# Altium footprint library MyPcbLib.PcbLib: 46 footprints (part 2 of 3)
Each footprint in its own frame and in the unit in brackets; x right, y up, seen from the top. Pads: shape width x height; smd on the part's side, far side on the other; paste and mask are expansions set on the pad; w line width, h text height; cw(c..) or ccw(c..) is an arc to the next point about the centre after c.
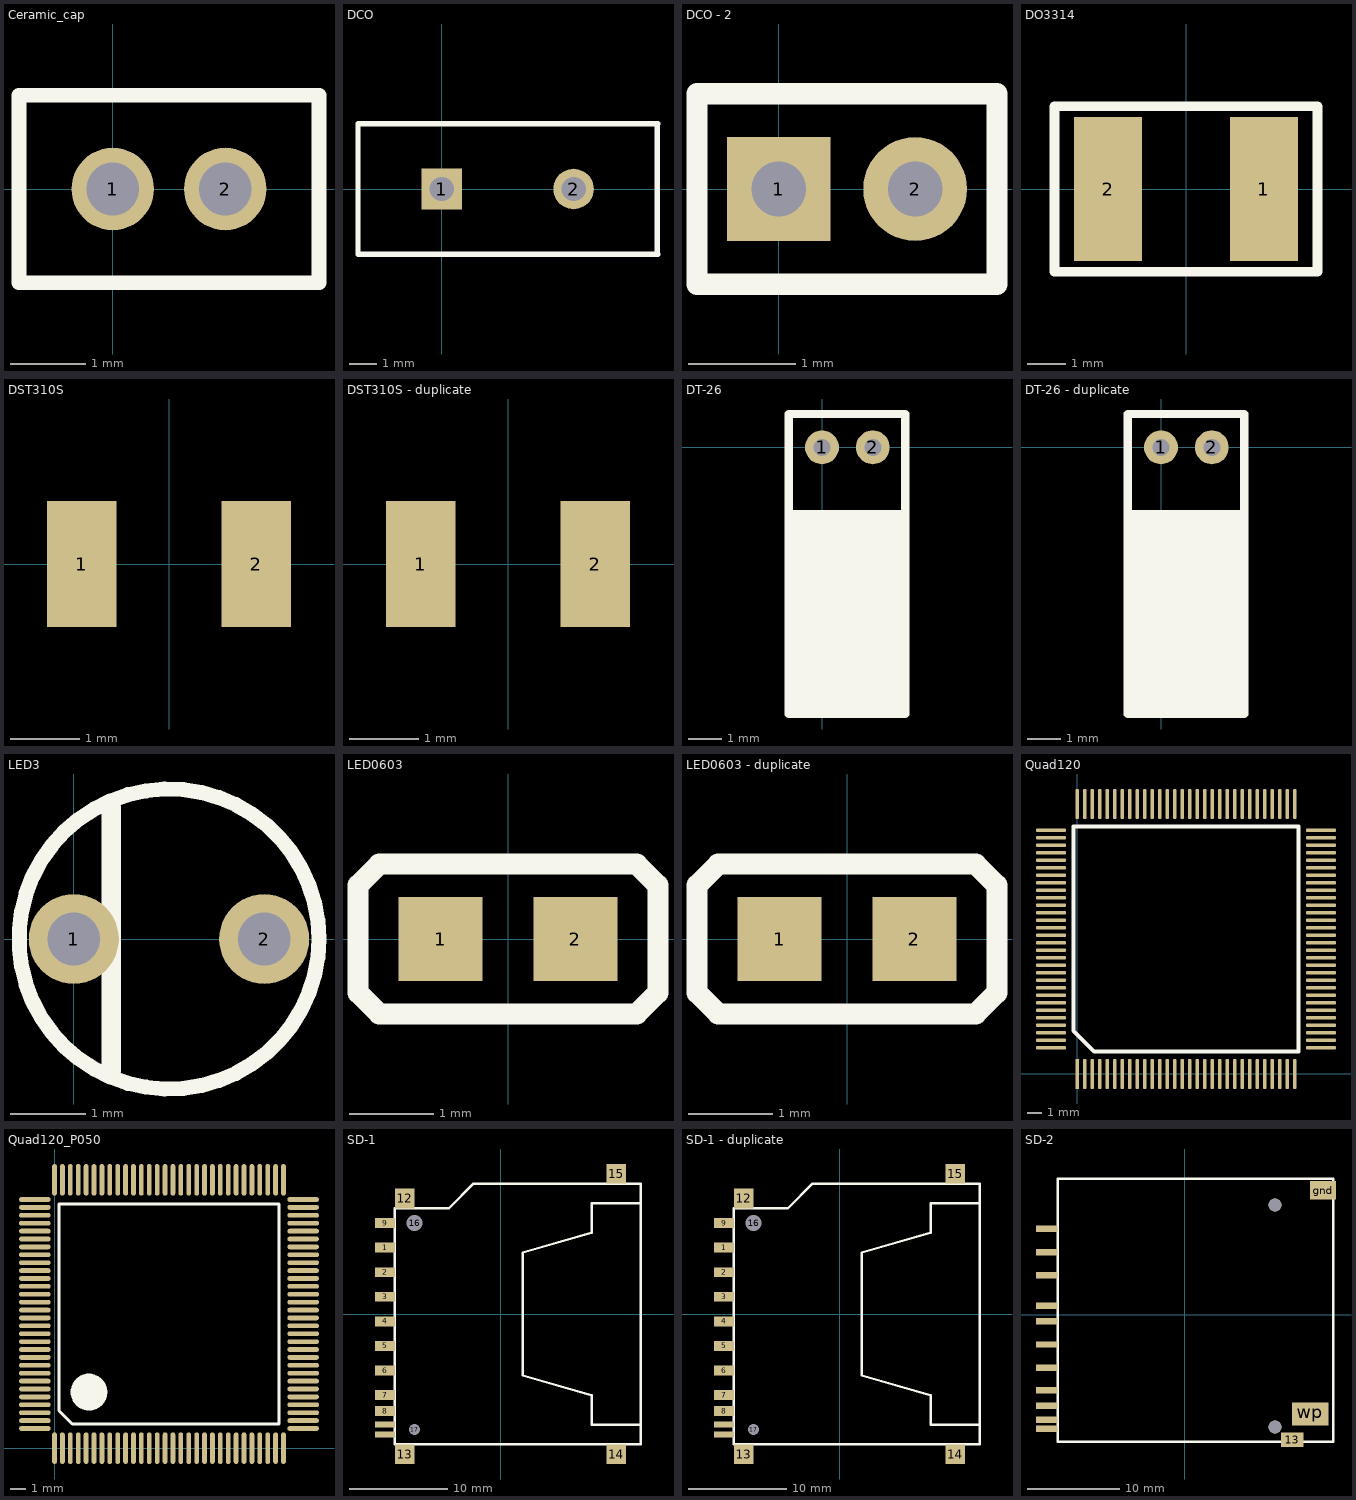
[diagram p1: the footprints below, top view; thin cyan lines are the x and y axes]

## Ceramic_cap [mm]
pads (2):
  round 1.1 hole 0.7: 1(0,0) 2(1.5,0)
Top Overlay:
  lines w0.2: -1.25,-1.25 -1.25,1.25 2.75,1.25 2.75,0.025 2.75,-1.25 -1.25,-1.25

## DCO [mm] "D Crystal Oscillator"
height 2.54
pads (2):
  rect 1.5x1.5 hole 0.9: 1(0,0)
  round 1.5 hole 0.9: 2(4.88,0)
Top Overlay:
  lines w0.2: 7.976,-2.413 7.976,2.413 ; 8.001,-2.413 -3.099,-2.413 -3.099,2.413 8.001,2.413

## DCO - 2 [mil] "D Crystal Oscillator"
height 500
pads (2):
  rect 38.05x38.05 hole 20: 1(0,0)
  round 38.05 hole 20: 2(50,0)
Top Overlay:
  lines w7.87: -30,-35 80,-35 80,35 -30,35 -30,-35

## DO3314 [mil]
height 55
pads (2):
  rect 70x148 smd: 1(80,0) 2(-80,0)
Top Overlay:
  lines w10: -135,-85 135,-85 135,85 -135,85 -135,-85

## DST310S [mm]
pads (2):
  rect 1x1.8 smd: 1(-1.25,0) 2(1.25,0)

## DST310S - duplicate [mm]
pads (2):
  rect 1x1.8 smd: 1(-1.25,0) 2(1.25,0)

## DT-26 [mil]
pads (2):
  round 40 hole 20: 1(0,0) 2(60,0)
Top Overlay:
  rectangle: -39.37,-314.96 98.43,-78.74
  lines w10: -39.37,-78.74 98.43,-78.74 ; -39.37,-78.74 -39.37,-314.96 98.43,-314.96 98.43,-78.74 ; -39.37,-78.74 -39.37,39.37 98.43,39.37 98.43,-78.74

## DT-26 - duplicate [mil]
pads (2):
  round 40 hole 20: 1(0,0) 2(60,0)
Top Overlay:
  rectangle: -39.37,-314.96 98.43,-78.74
  lines w10: -39.37,-78.74 98.43,-78.74 ; -39.37,-78.74 -39.37,-314.96 98.43,-314.96 98.43,-78.74 ; -39.37,-78.74 -39.37,39.37 98.43,39.37 98.43,-78.74

## LED3 [mm]
pads (2):
  round 1.2 hole 0.7: 1(0,0) 2(2.54,0)
Top Overlay:
  circle w0.2: c1.27,0 r2
  lines w0.254: 0.5,-1.75 0.5,1.75

## LED0603 [mm]
pads (2):
  rect 1x1 smd: 1(-0.8,0) 2(0.8,0)
Top Overlay:
  lines w0.254: -1.778,-0.635 -1.524,-0.889 1.524,-0.889 1.778,-0.635 1.778,0.635 1.524,0.889 -1.524,0.889 -1.778,0.635 -1.778,-0.635

## LED0603 - duplicate [mm]
pads (2):
  rect 1x1 smd: 1(-0.8,0) 2(0.8,0)
Top Overlay:
  lines w0.254: -1.778,-0.635 -1.524,-0.889 1.524,-0.889 1.778,-0.635 1.778,0.635 1.524,0.889 -1.524,0.889 -1.778,0.635 -1.778,-0.635

## Quad120 [mil]
pads (120):
  rect 10x80 smd: 1(0,0)
  oval 10x80 smd: 2(20,0) 3(40,0) 4(60,0) 5(80,0) 6(100,0) 7(120,0) 8(140,0) 9(160,0) 10(180,0) 11(200,0) 12(220,0) 13(240,0) 14(260,0) 15(280,0) 16(300,0) 17(320,0) 18(340,0) 19(360,0) 20(380,0) 21(400,0) 22(420,0) 23(440,0) 24(460,0) 25(480,0) 26(500,0) 27(520,0) 28(540,0) 29(560,0) 30(580,0) 61(580,720) 62(560,720) 63(540,720) 64(520,720) 65(500,720) 66(480,720) 67(460,720) 68(440,720) 69(420,720) 70(400,720) 71(380,720) 72(360,720) 73(340,720) 74(320,720) 75(300,720) 76(280,720) 77(260,720) 78(240,720) 79(220,720) 80(200,720) 81(180,720) 82(160,720) 83(140,720) 84(120,720) 85(100,720) 86(80,720) 87(60,720) 88(40,720) 89(20,720) 90(0,720)
  oval 80x10 smd: 31(650,70) 32(650,90) 33(650,110) 34(650,130) 35(650,150) 36(650,170) 37(650,190) 38(650,210) 39(650,230) 40(650,250) 41(650,270) 42(650,290) 43(650,310) 44(650,330) 45(650,350) 46(650,370) 47(650,390) 48(650,410) 49(650,430) 50(650,450) 51(650,470) 52(650,490) 53(650,510) 54(650,530) 55(650,550) 56(650,570) 57(650,590) 58(650,610) 59(650,630) 60(650,650) 91(-70,650) 92(-70,630) 93(-70,610) 94(-70,590) 95(-70,570) 96(-70,550) 97(-70,530) 98(-70,510) 99(-70,490) 100(-70,470) 101(-70,450) 102(-70,430) 103(-70,410) 104(-70,390) 105(-70,370) 106(-70,350) 107(-70,330) 108(-70,310) 109(-70,290) 110(-70,270) 111(-70,250) 112(-70,230) 113(-70,210) 114(-70,190) 115(-70,170) 116(-70,150) 117(-70,130) 118(-70,110) 119(-70,90) 120(-70,70)
Top Overlay:
  lines w10: -10,115 45,60 590,60 590,660 -10,660 -10,115

## Quad120_P050 [mm]
pads (120):
  oval 0.3x2 smd: 1(0,0) 2(0.5,0) 3(1,0) 4(1.5,0) 5(2,0) 6(2.5,0) 7(3,0) 8(3.5,0) 9(4,0) 10(4.5,0) 11(5,0) 12(5.5,0) 13(6,0) 14(6.5,0) 15(7,0) 16(7.5,0) 17(8,0) 18(8.5,0) 19(9,0) 20(9.5,0) 21(10,0) 22(10.5,0) 23(11,0) 24(11.5,0) 25(12,0) 26(12.5,0) 27(13,0) 28(13.5,0) 29(14,0) 30(14.5,0) 61(14.5,17) 62(14,17) 63(13.5,17) 64(13,17) 65(12.5,17) 66(12,17) 67(11.5,17) 68(11,17) 69(10.5,17) 70(10,17) 71(9.5,17) 72(9,17) 73(8.5,17) 74(8,17) 75(7.5,17) 76(7,17) 77(6.5,17) 78(6,17) 79(5.5,17) 80(5,17) 81(4.5,17) 82(4,17) 83(3.5,17) 84(3,17) 85(2.5,17) 86(2,17) 87(1.5,17) 88(1,17) 89(0.5,17) 90(0,17)
  oval 2x0.3 smd: 31(15.75,1.25) 32(15.75,1.75) 33(15.75,2.25) 34(15.75,2.75) 35(15.75,3.25) 36(15.75,3.75) 37(15.75,4.25) 38(15.75,4.75) 39(15.75,5.25) 40(15.75,5.75) 41(15.75,6.25) 42(15.75,6.75) 43(15.75,7.25) 44(15.75,7.75) 45(15.75,8.25) 46(15.75,8.75) 47(15.75,9.25) 48(15.75,9.75) 49(15.75,10.25) 50(15.75,10.75) 51(15.75,11.25) 52(15.75,11.75) 53(15.75,12.25) 54(15.75,12.75) 55(15.75,13.25) 56(15.75,13.75) 57(15.75,14.25) 58(15.75,14.75) 59(15.75,15.25) 60(15.75,15.75) 91(-1.25,15.75) 92(-1.25,15.25) 93(-1.25,14.75) 94(-1.25,14.25) 95(-1.25,13.75) 96(-1.25,13.25) 97(-1.25,12.75) 98(-1.25,12.25) 99(-1.25,11.75) 100(-1.25,11.25) 101(-1.25,10.75) 102(-1.25,10.25) 103(-1.25,9.75) 104(-1.25,9.25) 105(-1.25,8.75) 106(-1.25,8.25) 107(-1.25,7.75) 108(-1.25,7.25) 109(-1.25,6.75) 110(-1.25,6.25) 111(-1.25,5.75) 112(-1.25,5.25) 113(-1.25,4.75) 114(-1.25,4.25) 115(-1.25,3.75) 116(-1.25,3.25) 117(-1.25,2.75) 118(-1.25,2.25) 119(-1.25,1.75) 120(-1.25,1.25)
Top Overlay:
  circle w1.27: c2.18,3.556 r0.529
  lines w0.2: 0.285,2.382 1.132,1.535 14.215,1.535 14.215,15.465 0.285,15.465 0.285,2.382

## SD-1 [mm]
pads (17):
  rect 2x1 smd: 1(-11.75,6.75) 2(-11.75,4.25) 3(-11.75,1.75) 4(-11.75,-0.75) 5(-11.75,-3.25) 6(-11.75,-5.75) 7(-11.75,-8.25) 8(-11.75,-9.875) 9(-11.75,9.25)
  rect 2x0.6 smd: 10(-11.75,-12.25) 11(-11.75,-11.25)
  rect 2x2 smd: 12(-9.75,11.75) 13(-9.75,-14.25) 14(11.75,-14.25) 15(11.75,14.25)
  round 1.5 hole 1.6: 16(-8.75,9.25)
  round 1 hole 1.1: 17(-8.75,-11.75)
Top Overlay:
  lines w0.254: 14.25,-11.25 9.25,-11.25 9.25,-8.25 2.25,-6.25 2.25,6.25 9.25,8.25 9.25,11.25 14.25,11.25 ; -10.75,-13.25 -10.75,10.75 -5.25,10.75 -2.75,13.25 14.25,13.25 14.25,-13.25 -10.75,-13.25

## SD-1 - duplicate [mm]
pads (17):
  rect 2x1 smd: 1(-11.75,6.75) 2(-11.75,4.25) 3(-11.75,1.75) 4(-11.75,-0.75) 5(-11.75,-3.25) 6(-11.75,-5.75) 7(-11.75,-8.25) 8(-11.75,-9.875) 9(-11.75,9.25)
  rect 2x0.6 smd: 10(-11.75,-12.25) 11(-11.75,-11.25)
  rect 2x2 smd: 12(-9.75,11.75) 13(-9.75,-14.25) 14(11.75,-14.25) 15(11.75,14.25)
  round 1.5 hole 1.6: 16(-8.75,9.25)
  round 1 hole 1.1: 17(-8.75,-11.75)
Top Overlay:
  lines w0.254: 14.25,-11.25 9.25,-11.25 9.25,-8.25 2.25,-6.25 2.25,6.25 9.25,8.25 9.25,11.25 14.25,11.25 ; -10.75,-13.25 -10.75,10.75 -5.25,10.75 -2.75,13.25 14.25,13.25 14.25,-13.25 -10.75,-13.25

## SD-2 [mm]
pads (14):
  rect 2.35x0.7 smd: 1(-14.935,6.8) 2(-14.935,4.3) 3(-14.935,1) 4(-14.935,-0.7) 5(-14.935,-3.2) 6(-14.935,-5.7) 7(-14.935,-8.13) 8(-14.935,-9.82) 9(-14.935,9.3) cd(-14.935,-11.32) com(-14.935,-12.32)
  rect 2.4x1.6 smd: 13(11.595,-13.5)
  rect 2.8x2 smd: gnd(14.935,13.5)
  rect 3.95x2.5 smd: wp(13.565,-10.7)
via 9.735,-12.1 diameter 1.4 hole 1.4
via 9.735,11.9 diameter 1.4 hole 1.4
Top Overlay:
  lines w0.254: -13.76,-13.72 -13.76,14.72 16.045,14.72 16.045,-13.72 -13.76,-13.72